# Altium schematic symbol library MCU_ST_STM32F4.SchLib: 300 symbols (part 11 of 11)
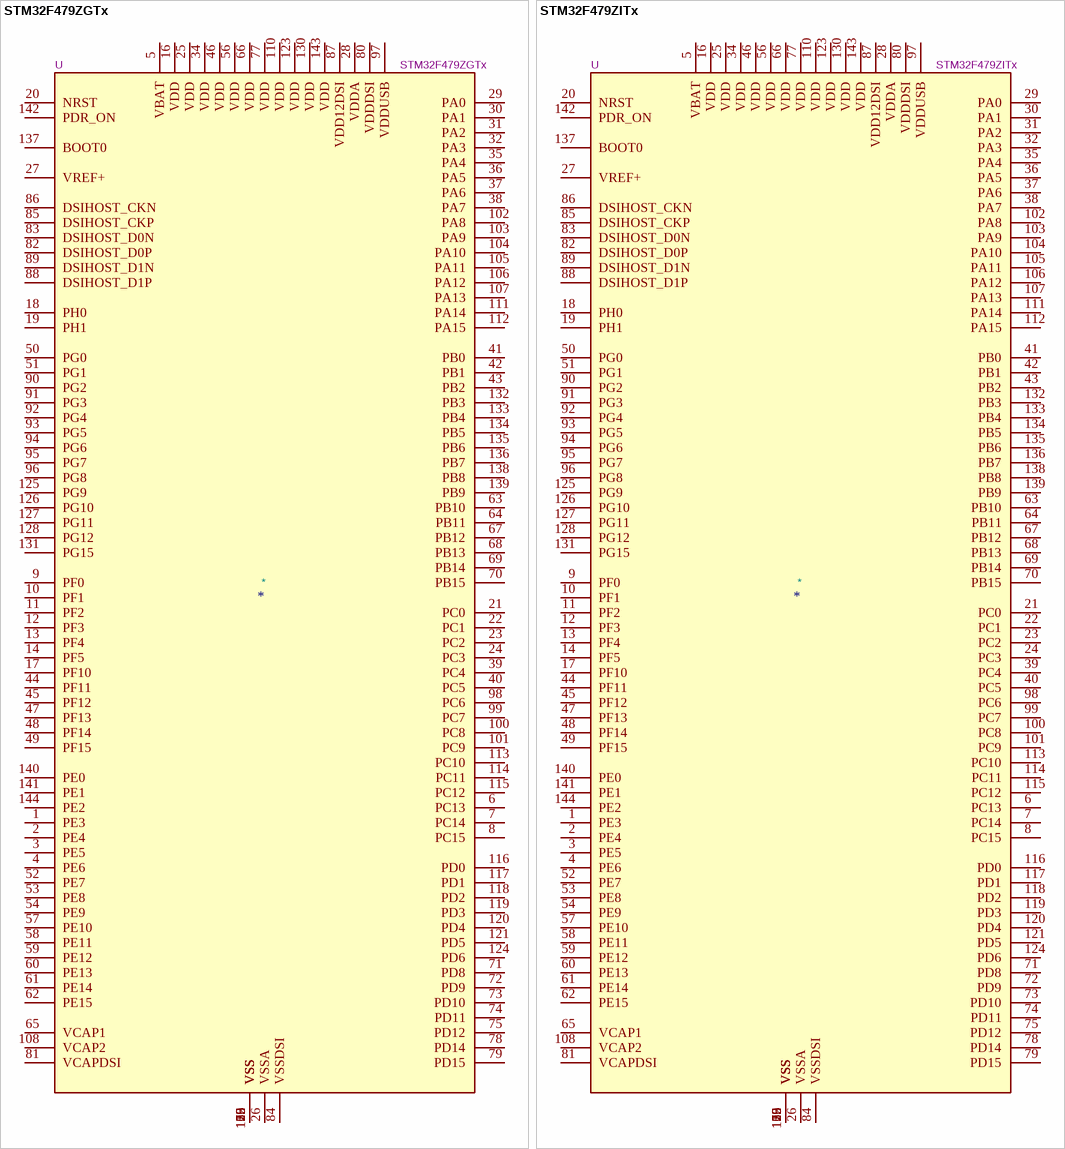
[diagram p92: symbols STM32F479ZGTx to STM32F479ZITx]

## STM32F479ZITx
designator *  value STM32F479ZITx  Reference: U
STMicroelectronics Arm Cortex-M4 MCU, 2048KB flash, 384KB RAM, 180 MHz, 1.7-3.6V, 106 GPIO, LQFP144; ki_keywords: Arm Cortex-M4 STM32F4 STM32F469/479; ki_fp_filters: LQFP*20x20mm*P0.5mm*; Footprint: Package_QFP:LQFP-144_20x20mm_P0.5mm; Datasheet: https://www.st.com/resource/en/datasheet/stm32f479zi.pdf; Description_: STMicroelectronics Arm Cortex-M4 MCU, 2048KB flash, 384KB RAM, 180 MHz, 1.7-3.6V, 106 GPIO, LQFP144
pins: 1 PE3, 2 PE4, 3 PE5, 4 PE6, 5 VBAT, 6 PC13, 7 PC14, 8 PC15, 9 PF0, 10 PF1, 11 PF2, 12 PF3, 13 PF4, 14 PF5, 15 VSS, 16 VDD, 17 PF10, 18 PH0, 19 PH1, 20 NRST, 21 PC0, 22 PC1, 23 PC2, 24 PC3, 25 VDD, 26 VSSA, 27 VREF+, 28 VDDA, 29 PA0, 30 PA1, 31 PA2, 32 PA3, 33 VSS, 34 VDD, 35 PA4, 36 PA5, 37 PA6, 38 PA7, 39 PC4, 40 PC5, 41 PB0, 42 PB1, 43 PB2, 44 PF11, 45 PF12, 46 VDD, 47 PF13, 48 PF14, 49 PF15, 50 PG0, 51 PG1, 52 PE7, 53 PE8, 54 PE9, 55 VSS, 56 VDD, 57 PE10, 58 PE11, 59 PE12, 60 PE13, 61 PE14, 62 PE15, 63 PB10, 64 PB11, 65 VCAP1, 66 VDD, 67 PB12, 68 PB13, 69 PB14, 70 PB15, 71 PD8, 72 PD9, 73 PD10, 74 PD11, 75 PD12, 76 VSS, 77 VDD, 78 PD14, 79 PD15, 80 VDDDSI, 81 VCAPDSI, 82 DSIHOST_D0P, 83 DSIHOST_D0N, 84 VSSDSI, 85 DSIHOST_CKP, 86 DSIHOST_CKN, 87 VDD12DSI, 88 DSIHOST_D1P, 89 DSIHOST_D1N, 90 PG2, 91 PG3, 92 PG4, 93 PG5, 94 PG6, 95 PG7, 96 PG8, 97 VDDUSB, 98 PC6, 99 PC7, 100 PC8, 101 PC9, 102 PA8, 103 PA9, 104 PA10, 105 PA11, 106 PA12, 107 PA13, 108 VCAP2, 109 VSS, 110 VDD, 111 PA14, 112 PA15, 113 PC10, 114 PC11, 115 PC12, 116 PD0, 117 PD1, 118 PD2, 119 PD3, 120 PD4, 121 PD5, 122 VSS, 123 VDD, 124 PD6, 125 PG9, 126 PG10, 127 PG11, 128 PG12, 129 VSS, 130 VDD, 131 PG15, 132 PB3, 133 PB4, 134 PB5, 135 PB6, 136 PB7, 137 BOOT0, 138 PB8, 139 PB9, 140 PE0, 141 PE1, 142 PDR_ON, 143 VDD, 144 PE2